# Altium schematic symbol library schematiclib1.SchLib: 14 symbols
Pins are listed as number, name and electrical type; pins without a type are passive.

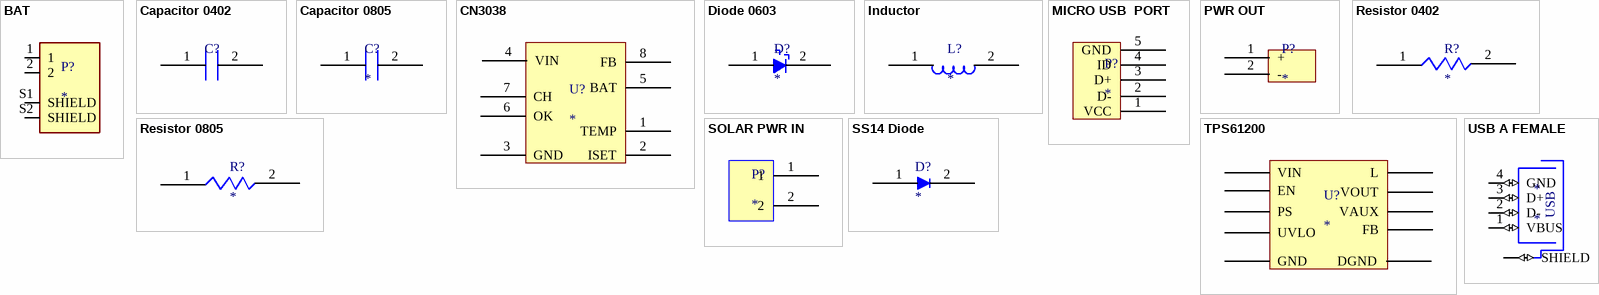
[diagram p0: symbols BAT to USB A FEMALE]

## BAT
designator P?
footprint PWR
pins: 1, 2, S1 SHIELD, S2 SHIELD

## Capacitor 0402
designator C?
footprint Model Name (Footprint not found)
footprint CAPACITOR 0402
pins: 1, 2

## Capacitor 0805
designator C?
footprint CAPACITOR 0805
pins: 1, 2

## CN3038
designator U?
footprint CN3083
pins: 1 TEMP, 2 ISET, 3 GND, 4 VIN, 5 BAT, 6 OK, 7 CH, 8 FB

## Diode 0603
designator D?
footprint DIODE 0603
footprint DIODE 0603
pins: 1, 2

## Inductor
designator L?
LPS3015 - 222MRB
footprint LPS3015
pins: 1, 2

## MICRO USB  PORT
designator P?
footprint MICRO USB OUT
pins: 1 VCC, 2 D-, 3 D+, 4 ID, 5 GND

## PWR OUT
designator P?
footprint PWR
footprint Model Name (Footprint not found)
footprint PWR
pins: 1 +, 2 -

## Resistor 0402
designator R?
footprint RESISTOR 0402
pins: 1, 2

## Resistor 0805
designator R?
footprint RESISTOR 0805
pins: 1, 2

## SOLAR PWR IN
designator P?
footprint PWR
pins: 1, 2

## SS14 Diode
designator D?
footprint SS14
footprint SS14
pins: 1, 2

## TPS61200
designator U?
footprint TPS61200
pins: 1 VAUX, 2 VOUT, 3 L, 4 DGND, 5 VIN, 6 EN, 7 UVLO, 8 PS, 9 GND, 10 FB

## USB A FEMALE
designator *
footprint USB A female
pins: 1 VBUS (io), 2 D- (io), 3 D+ (io), 4 GND (io), SHELL SHIELD (io), SHELL1 SHIELD (io)
text: USB